# Altium schematic symbol library Chip_kz85.SchLib: 319 symbols (part 5 of 5)
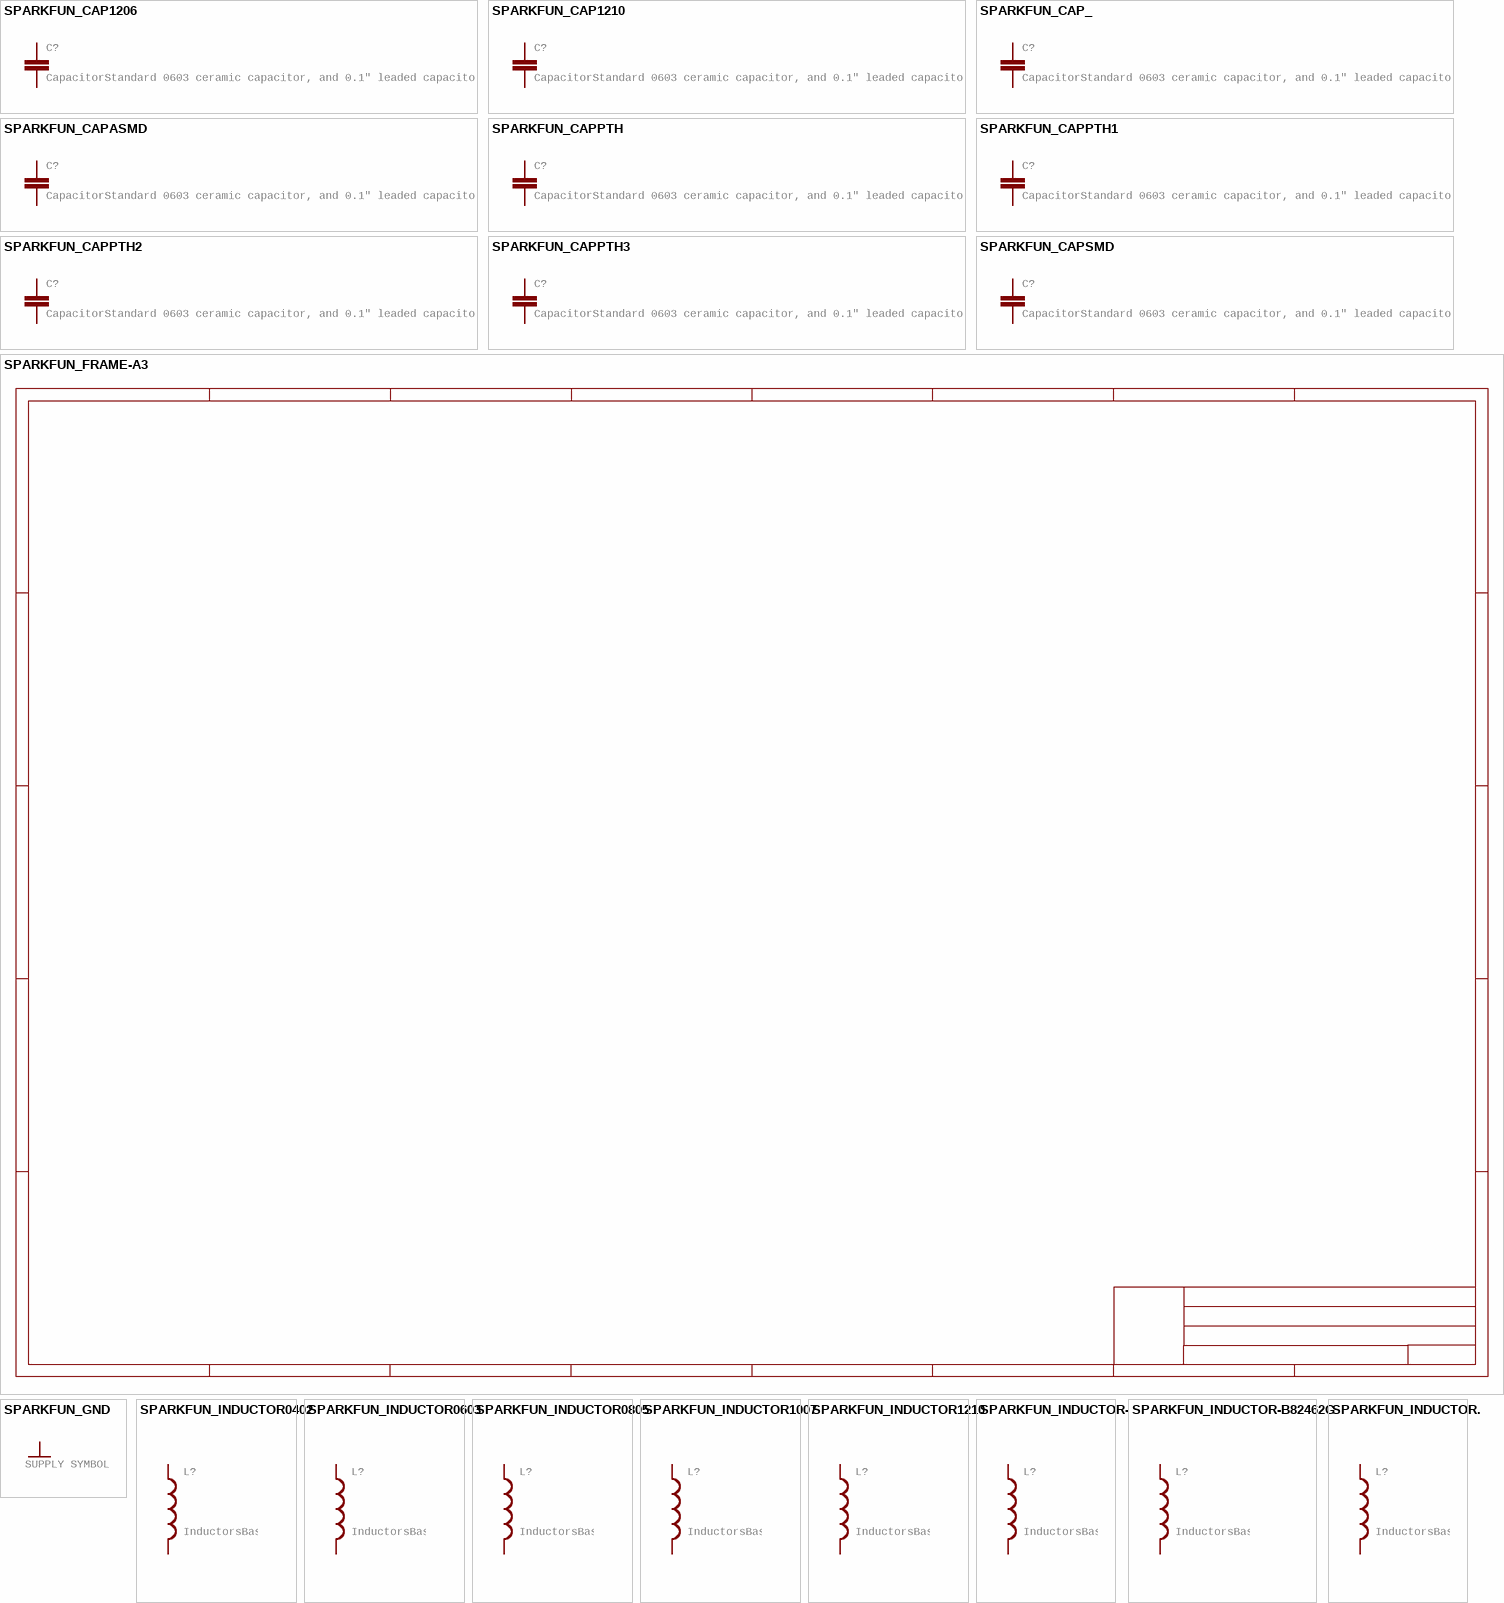
[diagram p15: symbols SPARKFUN_CAP1206 to SPARKFUN_INDUCTOR.]

## SPARKFUN_INDUCTOR-
designator L?, comment InductorsBasic Inductor/Choke - 0603 and 1206. Footprints are not proven and vary greatly between part numbers.
GateName_1: G$1; SymbolName_1: SPARKFUN_INDUCTOR; DeviceName: -; LibraryName: Sprite_CC1310_Development; DeviceSetName: SPARKFUN_INDUCTOR; Package: SPARKFUN_CDRH3D28
footprint SPARKFUN_CDRH3D28
pins: 1, 2

## SPARKFUN_INDUCTOR-B82462G
designator L?, comment InductorsBasic Inductor/Choke - 0603 and 1206. Footprints are not proven and vary greatly between part numbers.
GateName_1: G$1; SymbolName_1: SPARKFUN_INDUCTOR; DeviceName: -B82462G; LibraryName: Sprite_CC1310_Development; DeviceSetName: SPARKFUN_INDUCTOR; Package: SPARKFUN_B82462G
footprint SPARKFUN_B82462G
pins: P$1 1, P$2 2

## SPARKFUN_INDUCTOR.
designator L?, comment InductorsBasic Inductor/Choke - 0603 and 1206. Footprints are not proven and vary greatly between part numbers.
GateName_1: G$1; SymbolName_1: SPARKFUN_INDUCTOR; DeviceName: .; LibraryName: Sprite_CC1310_Development; DeviceSetName: SPARKFUN_INDUCTOR; Package: SPARKFUN_CDRH2D09
footprint SPARKFUN_CDRH2D09
pins: P$1 1, P$2 2

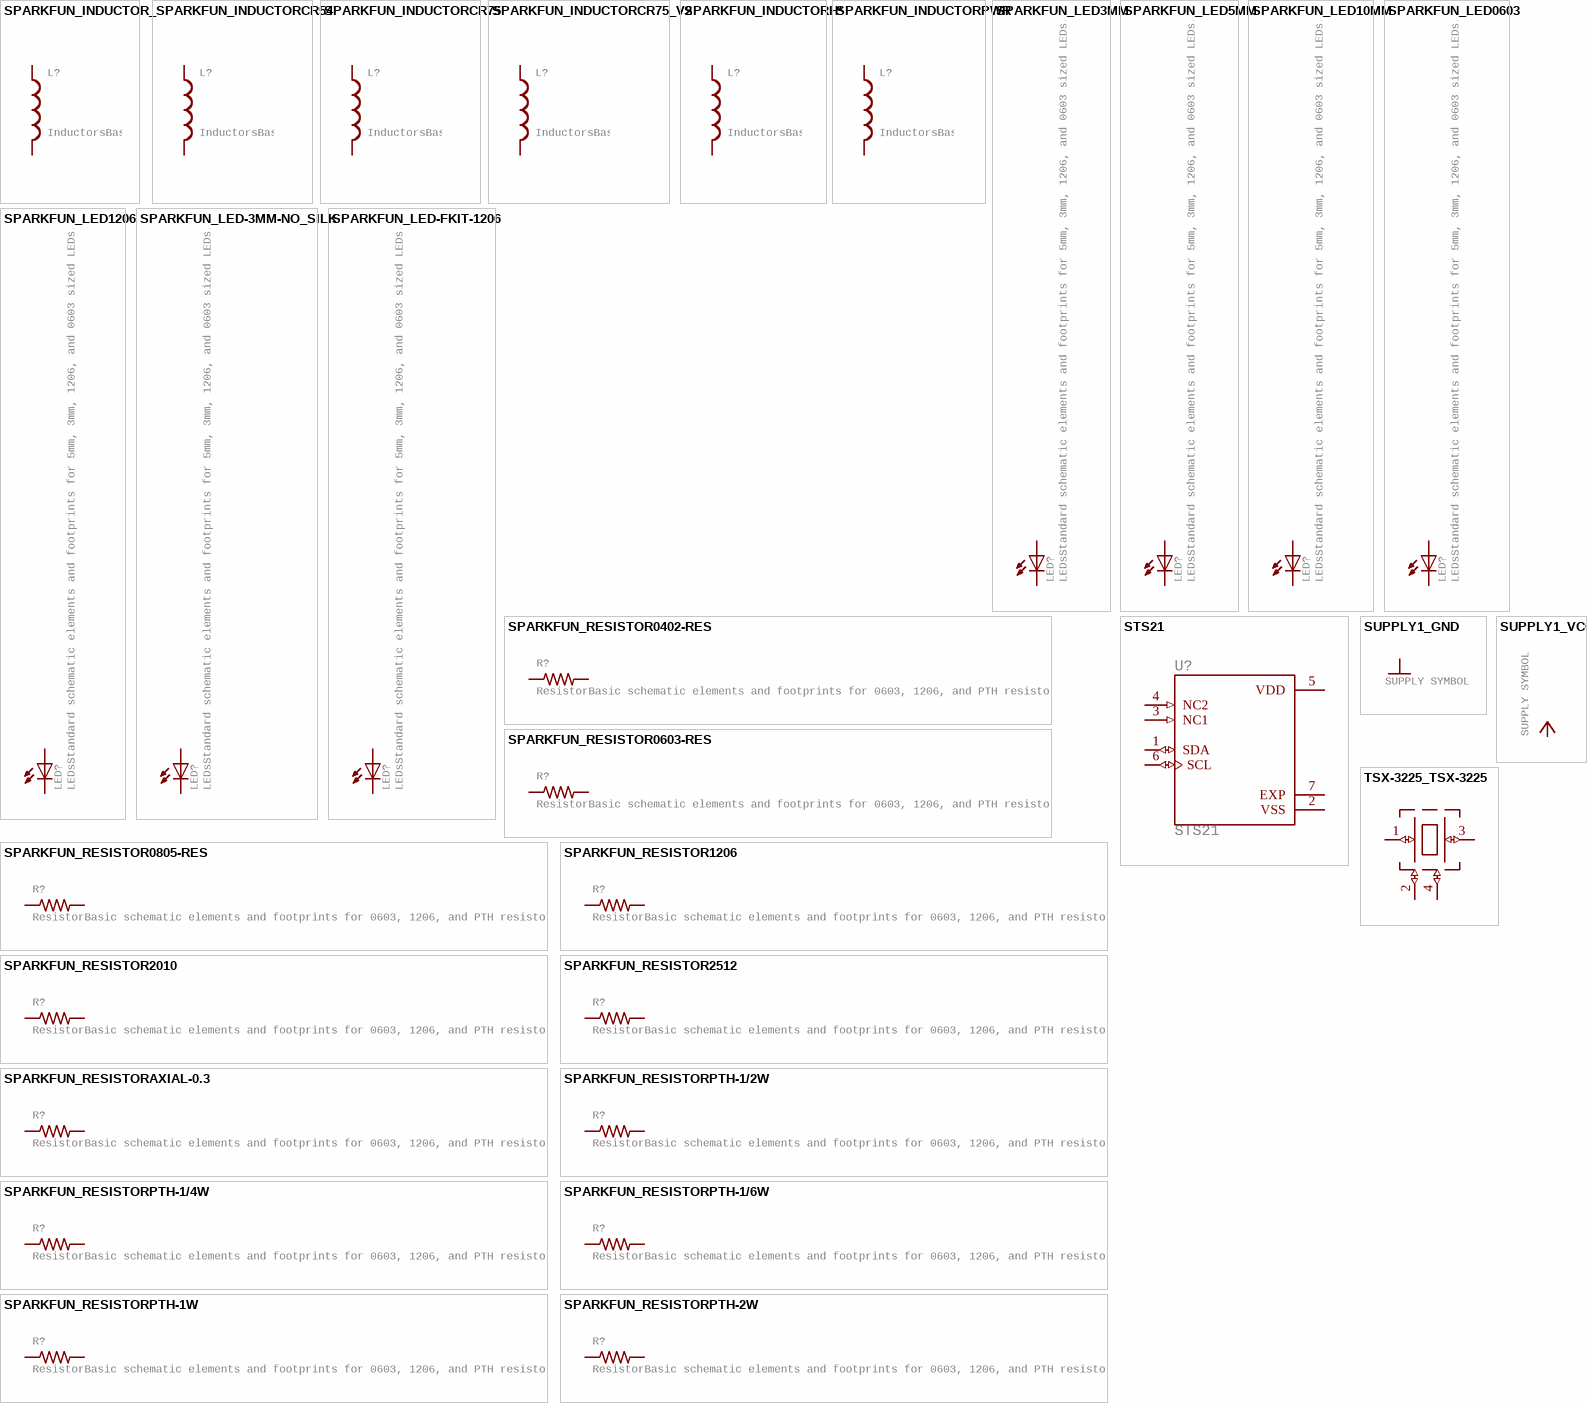
[diagram p10: symbols SPARKFUN_INDUCTOR_ to TSX-3225_TSX-3225]

## SPARKFUN_INDUCTOR_
designator L?, comment InductorsBasic Inductor/Choke - 0603 and 1206. Footprints are not proven and vary greatly between part numbers.
GateName_1: G$1; SymbolName_1: SPARKFUN_INDUCTOR; DeviceName: _; LibraryName: Sprite_CC1310_Development; DeviceSetName: SPARKFUN_INDUCTOR; Package: SPARKFUN_COOPER_UP4B
footprint SPARKFUN_COOPER_UP4B
pins: 1, 2

## SPARKFUN_INDUCTORCR54
designator L?, comment InductorsBasic Inductor/Choke - 0603 and 1206. Footprints are not proven and vary greatly between part numbers.
GateName_1: G$1; SymbolName_1: SPARKFUN_INDUCTOR; DeviceName: CR54; LibraryName: Sprite_CC1310_Development; DeviceSetName: SPARKFUN_INDUCTOR; Package: SPARKFUN_CR54
footprint SPARKFUN_CR54
pins: P$1 1, P$2 2

## SPARKFUN_INDUCTORCR75
designator L?, comment InductorsBasic Inductor/Choke - 0603 and 1206. Footprints are not proven and vary greatly between part numbers.
GateName_1: G$1; SymbolName_1: SPARKFUN_INDUCTOR; DeviceName: CR75; LibraryName: Sprite_CC1310_Development; DeviceSetName: SPARKFUN_INDUCTOR; Package: SPARKFUN_CR75
footprint SPARKFUN_CR75
pins: P$1 1, P$2 2

## SPARKFUN_INDUCTORCR75_V2
designator L?, comment InductorsBasic Inductor/Choke - 0603 and 1206. Footprints are not proven and vary greatly between part numbers.
GateName_1: G$1; SymbolName_1: SPARKFUN_INDUCTOR; DeviceName: CR75_V2; LibraryName: Sprite_CC1310_Development; DeviceSetName: SPARKFUN_INDUCTOR; Package: SPARKFUN_CR75_V2
footprint SPARKFUN_CR75_V2
pins: P$1 1, P$2 2

## SPARKFUN_INDUCTORH*
designator L?, comment InductorsBasic Inductor/Choke - 0603 and 1206. Footprints are not proven and vary greatly between part numbers.
GateName_1: G$1; SymbolName_1: SPARKFUN_INDUCTOR; DeviceName: H*; LibraryName: Sprite_CC1310_Development; DeviceSetName: SPARKFUN_INDUCTOR; Package: SPARKFUN_INDUCTOR-1206
footprint SPARKFUN_INDUCTOR-1206
pins: P$1 1, P$2 2

## SPARKFUN_INDUCTORPWR
designator L?, comment InductorsBasic Inductor/Choke - 0603 and 1206. Footprints are not proven and vary greatly between part numbers.
GateName_1: G$1; SymbolName_1: SPARKFUN_INDUCTOR; DeviceName: PWR; LibraryName: Sprite_CC1310_Development; DeviceSetName: SPARKFUN_INDUCTOR; Package: SPARKFUN_CDRH125
footprint SPARKFUN_CDRH125
pins: 1, 2

## SPARKFUN_LED3MM
designator LED?, comment LEDsStandard schematic elements and footprints for 5mm, 3mm, 1206, and 0603 sized LEDs. 5mm - Spark Fun Electronics SKU : COM-00529 (and others)
GateName_1: G$1; SymbolName_1: SPARKFUN_LED; DeviceName: 3MM; LibraryName: Sprite_CC1310_Development; DeviceSetName: SPARKFUN_LED; Package: SPARKFUN_LED3MM
footprint SPARKFUN_LED3MM
pins: A, K C

## SPARKFUN_LED5MM
designator LED?, comment LEDsStandard schematic elements and footprints for 5mm, 3mm, 1206, and 0603 sized LEDs. 5mm - Spark Fun Electronics SKU : COM-00529 (and others)
GateName_1: G$1; SymbolName_1: SPARKFUN_LED; DeviceName: 5MM; LibraryName: Sprite_CC1310_Development; DeviceSetName: SPARKFUN_LED; Package: SPARKFUN_LED5MM
footprint SPARKFUN_LED5MM
pins: A, K C

## SPARKFUN_LED10MM
designator LED?, comment LEDsStandard schematic elements and footprints for 5mm, 3mm, 1206, and 0603 sized LEDs. 5mm - Spark Fun Electronics SKU : COM-00529 (and others)
GateName_1: G$1; SymbolName_1: SPARKFUN_LED; DeviceName: 10MM; LibraryName: Sprite_CC1310_Development; DeviceSetName: SPARKFUN_LED; Package: SPARKFUN_LED10MM
footprint SPARKFUN_LED10MM
pins: A, C

## SPARKFUN_LED0603
designator LED?, comment LEDsStandard schematic elements and footprints for 5mm, 3mm, 1206, and 0603 sized LEDs. 5mm - Spark Fun Electronics SKU : COM-00529 (and others)
GateName_1: G$1; SymbolName_1: SPARKFUN_LED; DeviceName: 0603; LibraryName: Sprite_CC1310_Development; DeviceSetName: SPARKFUN_LED; Package: SPARKFUN_LED-0603
footprint SPARKFUN_LED-0603
pins: A, C

## SPARKFUN_LED1206
designator LED?, comment LEDsStandard schematic elements and footprints for 5mm, 3mm, 1206, and 0603 sized LEDs. 5mm - Spark Fun Electronics SKU : COM-00529 (and others)
GateName_1: G$1; SymbolName_1: SPARKFUN_LED; DeviceName: 1206; LibraryName: Sprite_CC1310_Development; DeviceSetName: SPARKFUN_LED; Package: SPARKFUN_LED-1206
footprint SPARKFUN_LED-1206
pins: A, C

## SPARKFUN_LED-3MM-NO_SILK
designator LED?, comment LEDsStandard schematic elements and footprints for 5mm, 3mm, 1206, and 0603 sized LEDs. 5mm - Spark Fun Electronics SKU : COM-00529 (and others)
GateName_1: G$1; SymbolName_1: SPARKFUN_LED; DeviceName: -3MM-NO_SILK; LibraryName: Sprite_CC1310_Development; DeviceSetName: SPARKFUN_LED; Package: SPARKFUN_LED3MM-NS
footprint SPARKFUN_LED3MM-NS
pins: A, K C

## SPARKFUN_LED-FKIT-1206
designator LED?, comment LEDsStandard schematic elements and footprints for 5mm, 3mm, 1206, and 0603 sized LEDs. 5mm - Spark Fun Electronics SKU : COM-00529 (and others)
GateName_1: G$1; SymbolName_1: SPARKFUN_LED; DeviceName: -FKIT-1206; LibraryName: Sprite_CC1310_Development; DeviceSetName: SPARKFUN_LED; Package: SPARKFUN_FKIT-LED-1206
footprint SPARKFUN_FKIT-LED-1206
pins: A, C

## SPARKFUN_RESISTOR0402-RES
designator R?, comment ResistorBasic schematic elements and footprints for 0603, 1206, and PTH resistors.
GateName_1: G$1; SymbolName_1: SPARKFUN_RESISTOR; DeviceName: 0402-RES; LibraryName: Sprite_CC1310_Development; DeviceSetName: SPARKFUN_RESISTOR; Package: SPARKFUN_0402-RES
footprint SPARKFUN_0402-RES
pins: 1, 2

## SPARKFUN_RESISTOR0603-RES
designator R?, comment ResistorBasic schematic elements and footprints for 0603, 1206, and PTH resistors.
GateName_1: G$1; SymbolName_1: SPARKFUN_RESISTOR; DeviceName: 0603-RES; LibraryName: Sprite_CC1310_Development; DeviceSetName: SPARKFUN_RESISTOR; Package: SPARKFUN_0603-RES
footprint SPARKFUN_0603-RES
pins: 1, 2

## SPARKFUN_RESISTOR0805-RES
designator R?, comment ResistorBasic schematic elements and footprints for 0603, 1206, and PTH resistors.
GateName_1: G$1; SymbolName_1: SPARKFUN_RESISTOR; DeviceName: 0805-RES; LibraryName: Sprite_CC1310_Development; DeviceSetName: SPARKFUN_RESISTOR; Package: SPARKFUN_0805
footprint SPARKFUN_0805
pins: 1, 2

## SPARKFUN_RESISTOR1206
designator R?, comment ResistorBasic schematic elements and footprints for 0603, 1206, and PTH resistors.
GateName_1: G$1; SymbolName_1: SPARKFUN_RESISTOR; DeviceName: 1206; LibraryName: Sprite_CC1310_Development; DeviceSetName: SPARKFUN_RESISTOR; Package: SPARKFUN_1206
footprint SPARKFUN_1206
pins: 1, 2

## SPARKFUN_RESISTOR2010
designator R?, comment ResistorBasic schematic elements and footprints for 0603, 1206, and PTH resistors.
GateName_1: G$1; SymbolName_1: SPARKFUN_RESISTOR; DeviceName: 2010; LibraryName: Sprite_CC1310_Development; DeviceSetName: SPARKFUN_RESISTOR; Package: SPARKFUN_R2010
footprint SPARKFUN_R2010
pins: 1, 2

## SPARKFUN_RESISTOR2512
designator R?, comment ResistorBasic schematic elements and footprints for 0603, 1206, and PTH resistors.
GateName_1: G$1; SymbolName_1: SPARKFUN_RESISTOR; DeviceName: 2512; LibraryName: Sprite_CC1310_Development; DeviceSetName: SPARKFUN_RESISTOR; Package: SPARKFUN_R2512
footprint SPARKFUN_R2512
pins: 1, 2

## SPARKFUN_RESISTORAXIAL-0.3
designator R?, comment ResistorBasic schematic elements and footprints for 0603, 1206, and PTH resistors.
GateName_1: G$1; SymbolName_1: SPARKFUN_RESISTOR; DeviceName: AXIAL-0.3; LibraryName: Sprite_CC1310_Development; DeviceSetName: SPARKFUN_RESISTOR; Package: SPARKFUN_AXIAL-0.3
footprint SPARKFUN_AXIAL-0.3
pins: P$1 1, P$2 2

## SPARKFUN_RESISTORPTH-1/2W
designator R?, comment ResistorBasic schematic elements and footprints for 0603, 1206, and PTH resistors.
GateName_1: G$1; SymbolName_1: SPARKFUN_RESISTOR; DeviceName: PTH-1/2W; LibraryName: Sprite_CC1310_Development; DeviceSetName: SPARKFUN_RESISTOR; Package: SPARKFUN_AXIAL-0.5
footprint SPARKFUN_AXIAL-0.5
pins: P$1 1, P$2 2

## SPARKFUN_RESISTORPTH-1/4W
designator R?, comment ResistorBasic schematic elements and footprints for 0603, 1206, and PTH resistors.
GateName_1: G$1; SymbolName_1: SPARKFUN_RESISTOR; DeviceName: PTH-1/4W; LibraryName: Sprite_CC1310_Development; DeviceSetName: SPARKFUN_RESISTOR; Package: SPARKFUN_AXIAL-0.4
footprint SPARKFUN_AXIAL-0.4
pins: P$1 1, P$2 2

## SPARKFUN_RESISTORPTH-1/6W
designator R?, comment ResistorBasic schematic elements and footprints for 0603, 1206, and PTH resistors.
GateName_1: G$1; SymbolName_1: SPARKFUN_RESISTOR; DeviceName: PTH-1/6W; LibraryName: Sprite_CC1310_Development; DeviceSetName: SPARKFUN_RESISTOR; Package: SPARKFUN_1/6W-RES
footprint SPARKFUN_1/6W-RES
pins: 1, 2

## SPARKFUN_RESISTORPTH-1W
designator R?, comment ResistorBasic schematic elements and footprints for 0603, 1206, and PTH resistors.
GateName_1: G$1; SymbolName_1: SPARKFUN_RESISTOR; DeviceName: PTH-1W; LibraryName: Sprite_CC1310_Development; DeviceSetName: SPARKFUN_RESISTOR; Package: SPARKFUN_AXIAL-0.6
footprint SPARKFUN_AXIAL-0.6
pins: P$1 1, P$2 2

## SPARKFUN_RESISTORPTH-2W
designator R?, comment ResistorBasic schematic elements and footprints for 0603, 1206, and PTH resistors.
GateName_1: G$1; SymbolName_1: SPARKFUN_RESISTOR; DeviceName: PTH-2W; LibraryName: Sprite_CC1310_Development; DeviceSetName: SPARKFUN_RESISTOR; Package: SPARKFUN_AXIAL-0.8
footprint SPARKFUN_AXIAL-0.8
pins: P$1 1, P$2 2

## STS21
designator U?
Temperature Sensor Digital, Local -40Â°C ~ 125Â°C 14 b 6-DFN (3x3)SENSOR DIGITAL -40C-125C 6DFN; GateName_1: G$1; SymbolName_1: STS21; LibraryName: STS21; DeviceSetName: STS21; DIGIKEY-PN: 1649-1016-1-ND
footprint XDCR_SGP30-2.5K
pins: 1 SDA (io), 2 VSS, 3 NC1 (in), 4 NC2 (in), 5 VDD (power), 6 SCL (io), 7 EXP

## SUPPLY1_GND
designator GND?, comment SUPPLY SYMBOL
GateName_1: 1; SymbolName_1: SUPPLY1_GND; LibraryName: AmbaSat-1v1-01-NO-solar; DeviceSetName: SUPPLY1_GND
pins: ?1 GND (power)

## SUPPLY1_VCC
designator P+?, comment SUPPLY SYMBOL
GateName_1: VCC; SymbolName_1: SUPPLY1_VCC; LibraryName: AmbaSat-1v1-01-NO-solar; DeviceSetName: SUPPLY1_VCC
pins: ?1 VCC (power)

## TSX-3225_TSX-3225
designator ?
GateName_1: G$1; SymbolName_1: TSX-3225_TSX-3225; LibraryName: Sprite_CC1310_Development; DeviceSetName: TSX-3225_TSX-3225; Package: TSX-3225_TSX-3225
footprint TSX-3225_TSX-3225
pins: 1 (io), 2 (io), 3 (io), 4 (io)

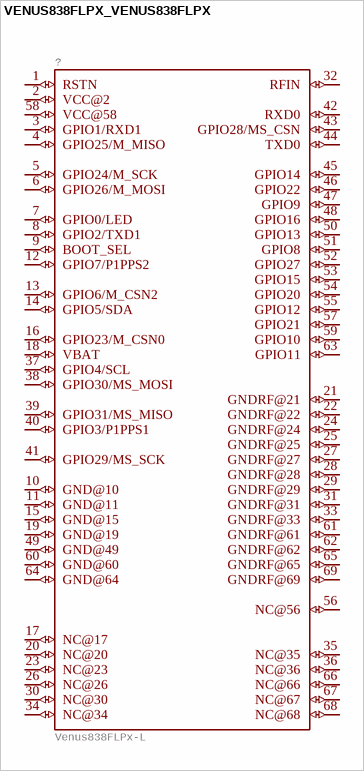
[diagram p11: symbol VENUS838FLPX_VENUS838FLPX]

## VENUS838FLPX_VENUS838FLPX
designator ?, comment Venus838FLPx-L
GateName_1: G$1; SymbolName_1: VENUS838FLPX_VENUS838FLPX; LibraryName: Sprite_CC1310_Development; DeviceSetName: VENUS838FLPX_VENUS838FLPX; Package: VENUS838FLPX_VENUS838FLPX
footprint VENUS838FLPX_VENUS838FLPX
pins: 1 RSTN (io), 2 VCC@2 (io), 3 GPIO1/RXD1 (io), 4 GPIO25/M_MISO (io), 5 GPIO24/M_SCK (io), 6 GPIO26/M_MOSI (io), 7 GPIO0/LED (io), 8 GPIO2/TXD1 (io), 9 BOOT_SEL (io), 10 GND@10 (io), 11 GND@11 (io), 12 GPIO7/P1PPS2 (io), 13 GPIO6/M_CSN2 (io), 14 GPIO5/SDA (io), 15 GND@15 (io), 16 GPIO23/M_CSN0 (io), 17 NC@17 (io), 18 VBAT (io), 19 GND@19 (io), 20 NC@20 (io), 21 GNDRF@21 (io), 22 GNDRF@22 (io), 23 NC@23 (io), 24 GNDRF@24 (io), 25 GNDRF@25 (io), 26 NC@26 (io), 27 GNDRF@27 (io), 28 GNDRF@28 (io), 29 GNDRF@29 (io), 30 NC@30 (io), 31 GNDRF@31 (io), 32 RFIN (io), 33 GNDRF@33 (io), 34 NC@34 (io), 35 NC@35 (io), 36 NC@36 (io), 37 GPIO4/SCL (io), 38 GPIO30/MS_MOSI (io), 39 GPIO31/MS_MISO (io), 40 GPIO3/P1PPS1 (io), 41 GPIO29/MS_SCK (io), 42 RXD0 (io), 43 GPIO28/MS_CSN (io), 44 TXD0 (io), 45 GPIO14 (io), 46 GPIO22 (io), 47 GPIO9 (io), 48 GPIO16 (io), 49 GND@49 (io), 50 GPIO13 (io), 51 GPIO8 (io), 52 GPIO27 (io), 53 GPIO15 (io), 54 GPIO20 (io), 55 GPIO12 (io), 56 NC@56 (io), 57 GPIO21 (io), 58 VCC@58 (io), 59 GPIO10 (io), 60 GND@60 (io), 61 GNDRF@61 (io), 62 GNDRF@62 (io), 63 GPIO11 (io), 64 GND@64 (io), 65 GNDRF@65 (io), 66 NC@66 (io), 67 NC@67 (io), 68 NC@68 (io), 69 GNDRF@69 (io)